# Altium footprint library TC_A.PcbLib: 1 footprints
Each footprint in its own frame and in the unit in brackets; x right, y up, seen from the top. Pads: shape width x height; smd on the part's side, far side on the other; paste and mask are expansions set on the pad; w line width, h text height; cw(c..) or ccw(c..) is an arc to the next point about the centre after c.
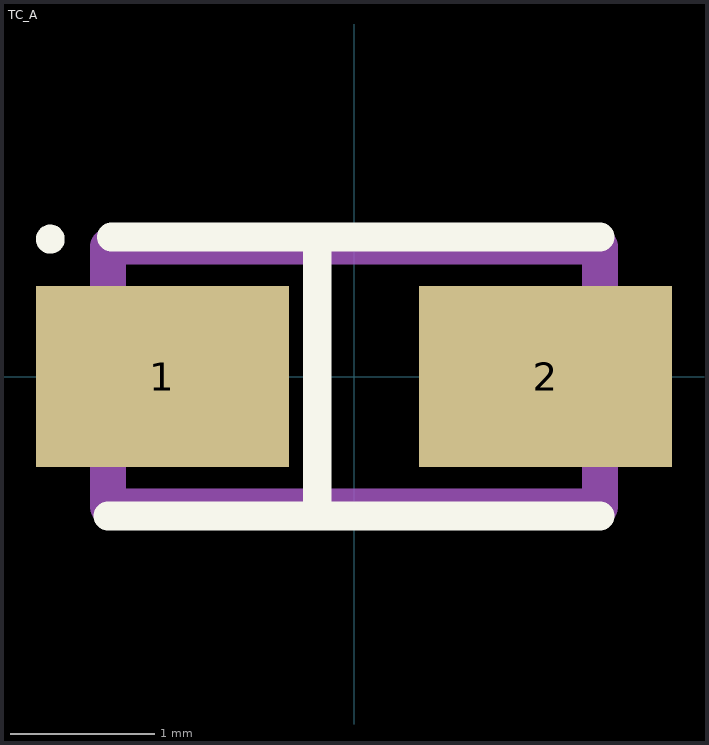
[diagram p0: the footprint, top view; thin cyan lines are the x and y axes]

## TC_A [mm] "Tantalum capacitor, type A,  1 pin - plus"
height 1.8
pads (2):
  rect 1.75x1.25 smd: 1(-1.325,0) 2(1.325,0)
Top Overlay:
  circle w0.1: c-2.1,0.95 r0.05
  lines w0.2: -1.702,-0.965 -0.254,-0.965 ; -1.676,0.965 -0.254,0.965 ; 1.702,-0.965 -0.254,-0.965 ; 1.702,0.965 -0.254,0.965 ; -0.254,-0.965 -0.254,0.965
Mechanical 4:
  lines w0.25: -1.7,-0.9 -1.7,0.9 1.7,0.9 1.7,-0.9 -1.7,-0.9
  text ".Designator" at 3.7,5.303 h2.15
3D body "Tant Cap SMD size A _ 3216-18.stp": height 1.64, standoff 0.01, extent -1.73,-0.8 1.73,0.8